# EAGLE library part LSM303DLHC (library adjacent-reality)
Ultra compact high performance e-compass 3D accelerometer and 3D magnetometer module
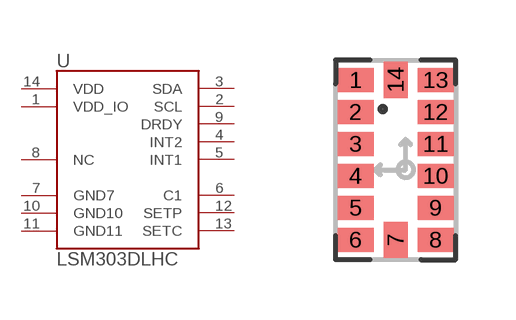
[diagram p9: symbol with the pads of LGA14-3X5; footprint LGA14-3X5]

Designator prefix U

## LSM303DLHC  [LGA14-3X5]
1  VDD_IO
2  SCL
3  SDA
4  INT2
5  INT1
6  C1
7  GND7
8  NC
9  DRDY
10  GND10
11  GND11
12  SETP
13  SETC
14  VDD

## Footprint LGA14-3X5 (pad centres in mm)
smd 0.9 x 0.6: 1 -1,2; 2 -1,1.2; 3 -1,0.4; 4 -1,-0.4; 5 -1,-1.2; 6 -1,-2; 8 1,-2; 9 1,-1.2; 10 1,-0.4; 11 1,0.4; 12 1,1.2; 13 1,2
smd 0.6 x 0.9: 7 0,-2; 14 0,2